# EAGLE library part LTM8056IY#PBF (library Picoradio1V1)
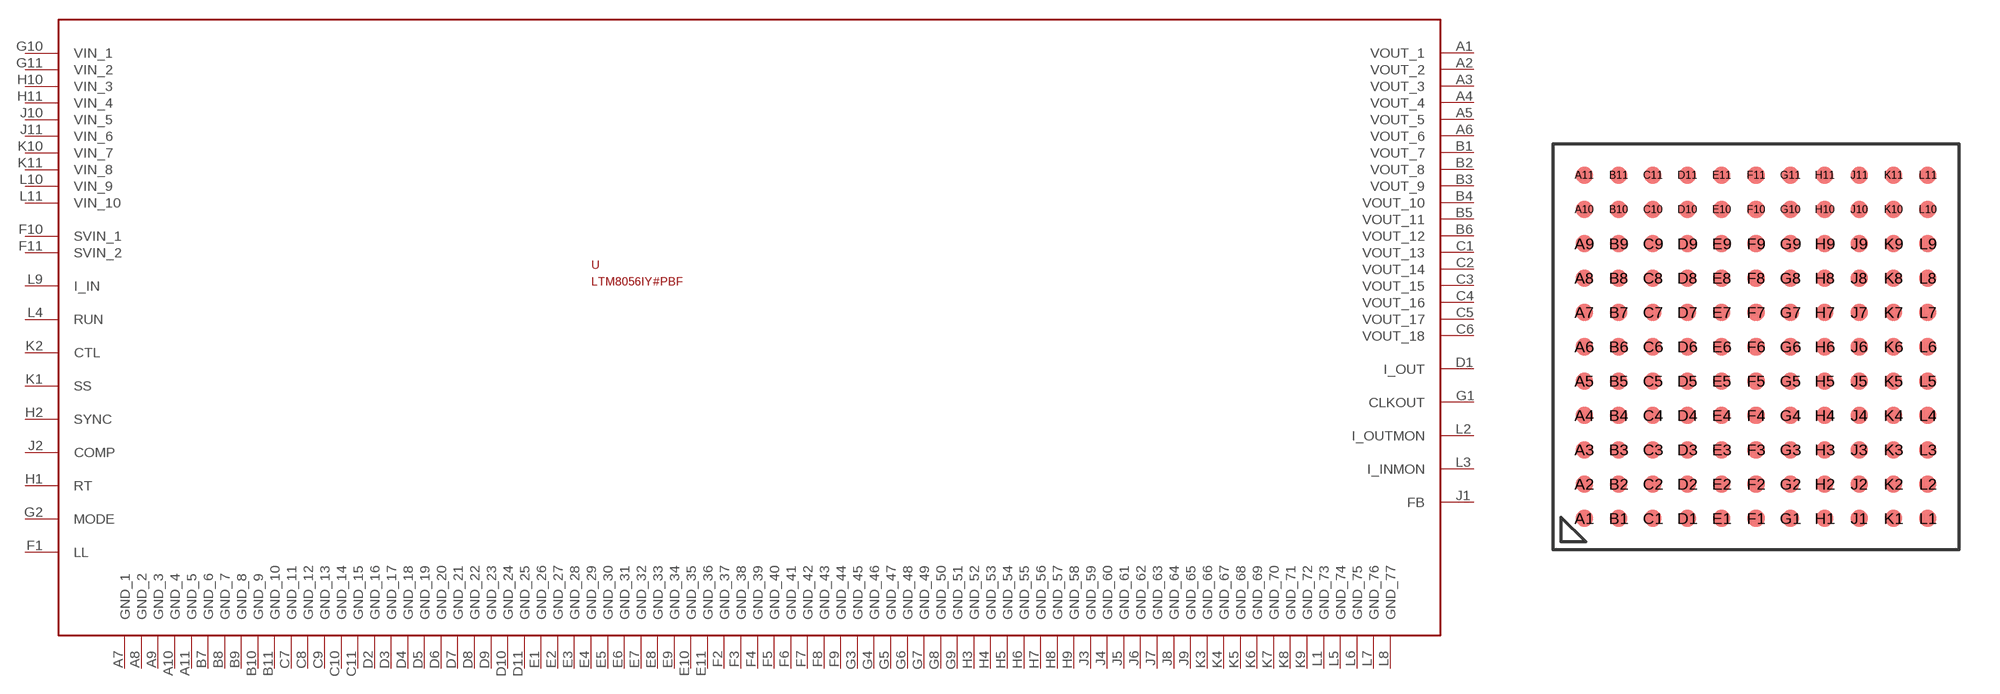
[diagram p3: symbol with the pads of LTM8056IY#PBF; footprint LTM8056IY#PBF]

Designator prefix U

## LTM8056IY#PBF  [LTM8056IY#PBF]
A1  VOUT_1
A2  VOUT_2
A3  VOUT_3
A4  VOUT_4
A5  VOUT_5
A6  VOUT_6
A7  GND_1
A8  GND_2
A9  GND_3
A10  GND_4
A11  GND_5
B1  VOUT_7
B2  VOUT_8
B3  VOUT_9
B4  VOUT_10
B5  VOUT_11
B6  VOUT_12
B7  GND_6
B8  GND_7
B9  GND_8
B10  GND_9
B11  GND_10
C1  VOUT_13
C2  VOUT_14
C3  VOUT_15
C4  VOUT_16
C5  VOUT_17
C6  VOUT_18
C7  GND_11
C8  GND_12
C9  GND_13
C10  GND_14
C11  GND_15
D1  I_OUT
D2  GND_16
D3  GND_17
D4  GND_18
D5  GND_19
D6  GND_20
D7  GND_21
D8  GND_22
D9  GND_23
D10  GND_24
D11  GND_25
E1  GND_26
E2  GND_27
E3  GND_28
E4  GND_29
E5  GND_30
E6  GND_31
E7  GND_32
E8  GND_33
E9  GND_34
E10  GND_35
E11  GND_36
F1  LL
F2  GND_37
F3  GND_38
F4  GND_39
F5  GND_40
F6  GND_41
F7  GND_42
F8  GND_43
F9  GND_44
F10  SVIN_1
F11  SVIN_2
G1  CLKOUT
G2  MODE
G3  GND_45
G4  GND_46
G5  GND_47
G6  GND_48
G7  GND_49
G8  GND_50
G9  GND_51
G10  VIN_1
G11  VIN_2
H1  RT
H2  SYNC
H3  GND_52
H4  GND_53
H5  GND_54
H6  GND_55
H7  GND_56
H8  GND_57
H9  GND_58
H10  VIN_3
H11  VIN_4
J1  FB
J2  COMP
J3  GND_59
J4  GND_60
J5  GND_61
J6  GND_62
J7  GND_63
J8  GND_64
J9  GND_65
J10  VIN_5
J11  VIN_6
K1  SS
K2  CTL
K3  GND_66
K4  GND_67
K5  GND_68
K6  GND_69
K7  GND_70
K8  GND_71
K9  GND_72
K10  VIN_7
K11  VIN_8
L1  GND_73
L2  I_OUTMON
L3  I_INMON
L4  RUN
L5  GND_74
L6  GND_75
L7  GND_76
L8  GND_77
L9  I_IN
L10  VIN_9
L11  VIN_10

## Footprint LTM8056IY#PBF (pad centres in mm)
smd 0.635 x 0.635: A1 -6.35,-6.35; A2 -6.35,-5.08; A3 -6.35,-3.81; A4 -6.35,-2.54; A5 -6.35,-1.27; A6 -6.35,0; A7 -6.35,1.27; A8 -6.35,2.54; A9 -6.35,3.81; A10 -6.35,5.08; A11 -6.35,6.35; B1 -5.08,-6.35; B2 -5.08,-5.08; B3 -5.08,-3.81; B4 -5.08,-2.54; B5 -5.08,-1.27; B6 -5.08,0; B7 -5.08,1.27; B8 -5.08,2.54; B9 -5.08,3.81; B10 -5.08,5.08; B11 -5.08,6.35; C1 -3.81,-6.35; C2 -3.81,-5.08; C3 -3.81,-3.81; C4 -3.81,-2.54; C5 -3.81,-1.27; C6 -3.81,0; C7 -3.81,1.27; C8 -3.81,2.54; C9 -3.81,3.81; C10 -3.81,5.08; C11 -3.81,6.35; D1 -2.54,-6.35; D2 -2.54,-5.08; D3 -2.54,-3.81; D4 -2.54,-2.54; D5 -2.54,-1.27; D6 -2.54,0; D7 -2.54,1.27; D8 -2.54,2.54; D9 -2.54,3.81; D10 -2.54,5.08; D11 -2.54,6.35; E1 -1.27,-6.35; E2 -1.27,-5.08; E3 -1.27,-3.81; E4 -1.27,-2.54; E5 -1.27,-1.27; E6 -1.27,0; E7 -1.27,1.27; E8 -1.27,2.54; E9 -1.27,3.81; E10 -1.27,5.08; E11 -1.27,6.35; F1 0,-6.35; F2 0,-5.08; F3 0,-3.81; F4 0,-2.54; F5 0,-1.27; F6 0,0; F7 0,1.27; F8 0,2.54; F9 0,3.81; F10 0,5.08; F11 0,6.35; G1 1.27,-6.35; G2 1.27,-5.08; G3 1.27,-3.81; G4 1.27,-2.54; G5 1.27,-1.27; G6 1.27,0; G7 1.27,1.27; G8 1.27,2.54; G9 1.27,3.81; G10 1.27,5.08; G11 1.27,6.35; H1 2.54,-6.35; H2 2.54,-5.08; H3 2.54,-3.81; H4 2.54,-2.54; H5 2.54,-1.27; H6 2.54,0; H7 2.54,1.27; H8 2.54,2.54; H9 2.54,3.81; H10 2.54,5.08; H11 2.54,6.35; J1 3.81,-6.35; J2 3.81,-5.08; J3 3.81,-3.81; J4 3.81,-2.54; J5 3.81,-1.27; J6 3.81,0; J7 3.81,1.27; J8 3.81,2.54; J9 3.81,3.81; J10 3.81,5.08; J11 3.81,6.35; K1 5.08,-6.35; K2 5.08,-5.08; K3 5.08,-3.81; K4 5.08,-2.54; K5 5.08,-1.27; K6 5.08,0; K7 5.08,1.27; K8 5.08,2.54; K9 5.08,3.81; K10 5.08,5.08; K11 5.08,6.35; L1 6.35,-6.35; L2 6.35,-5.08; L3 6.35,-3.81; L4 6.35,-2.54; L5 6.35,-1.27; L6 6.35,0; L7 6.35,1.27; L8 6.35,2.54; L9 6.35,3.81; L10 6.35,5.08; L11 6.35,6.35